# Altium footprint library RLC.PcbLib: 144 footprints (part 2 of 9)
Each footprint in its own frame and in the unit in brackets; x right, y up, seen from the top. Pads: shape width x height; smd on the part's side, far side on the other; paste and mask are expansions set on the pad; w line width, h text height; cw(c..) or ccw(c..) is an arc to the next point about the centre after c.
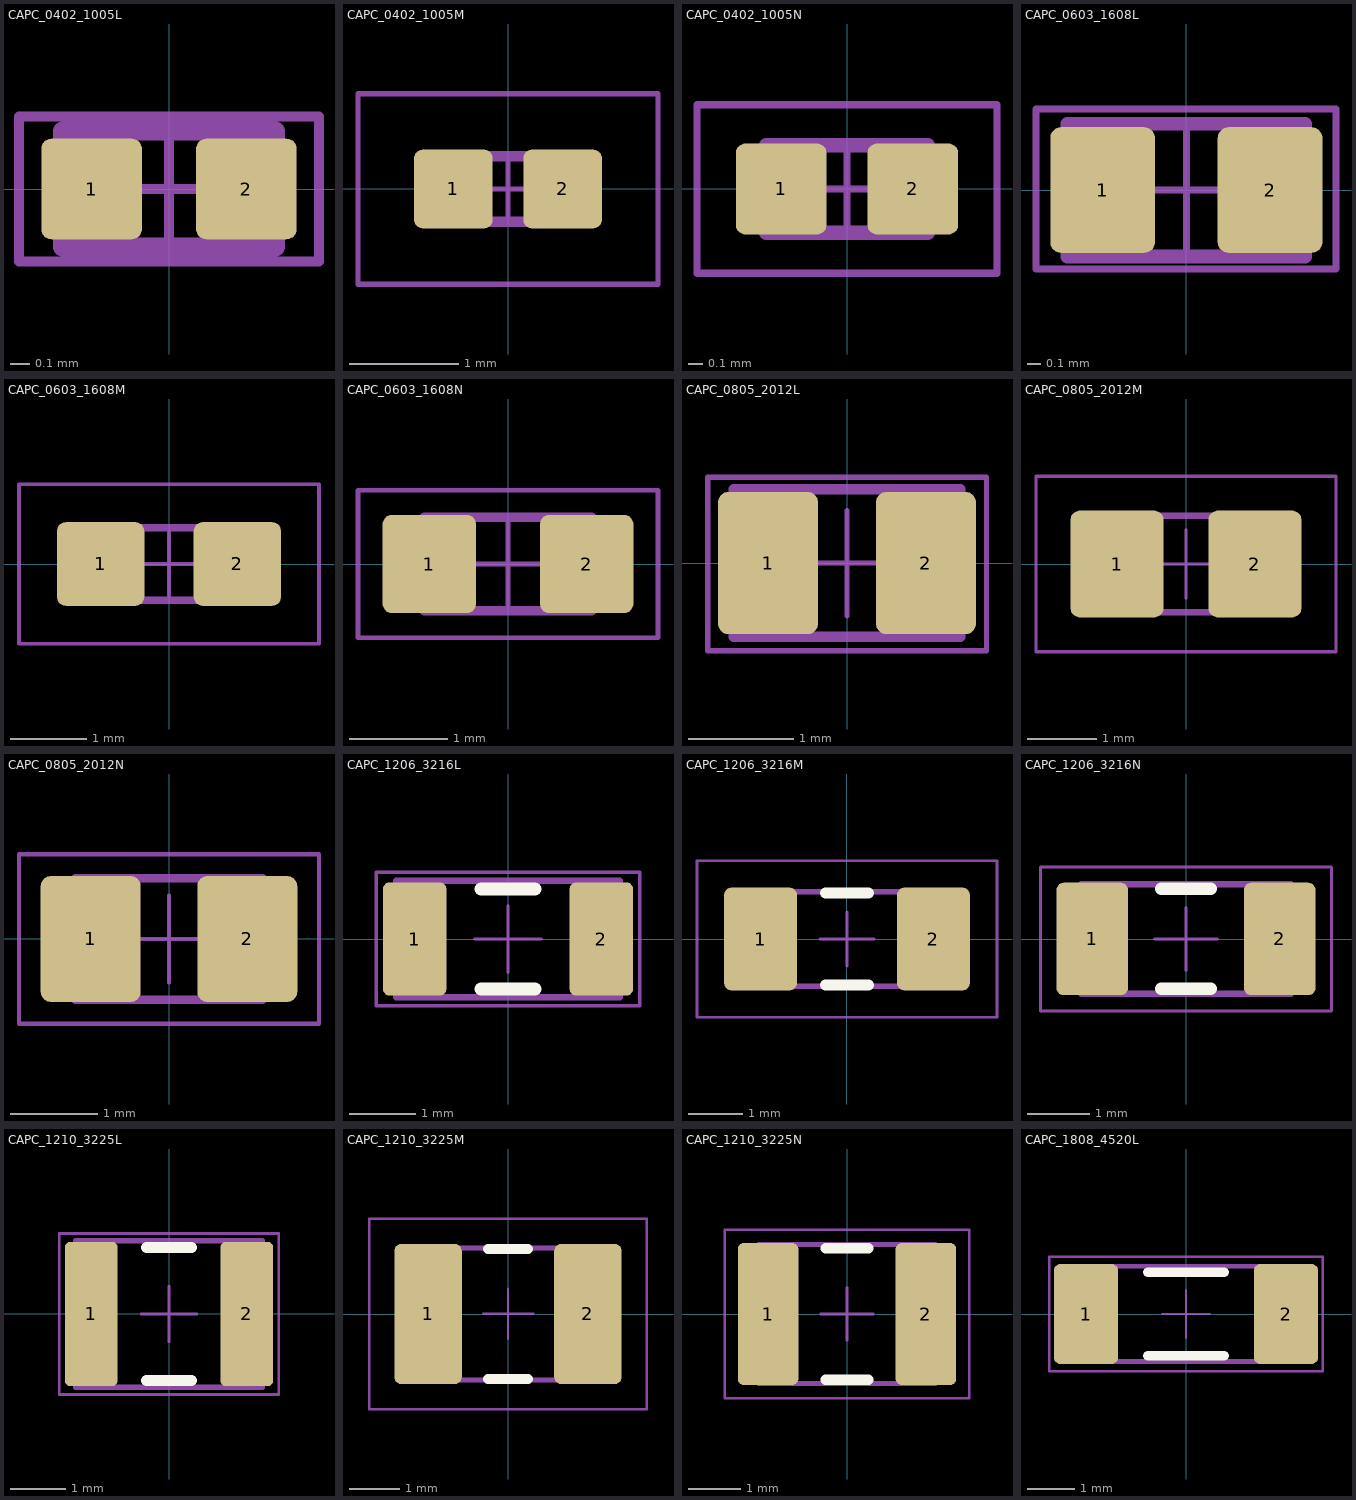
[diagram p1: the footprints below, top view; thin cyan lines are the x and y axes]

## CAPC_0402_1005L [mm] "Chip Capacitor, Body 1.1x0.5mm, IPC High Density"
height 0.4
pads (2):
  rrect20% 0.52x0.52 smd: 1(-0.4,0) 2(0.4,0)
Top Designator:
  text ".Designator" at -2.799,0.7 h0.6
Top Assembly:
  lines w0.1: -0.55,-0.3 -0.55,0.3 0.55,0.3 0.55,-0.3 -0.55,-0.3
Top Courtyard:
  lines w0.05: -0.3,0 0.3,0 ; 0,-0.3 0,0.3 ; -0.775,-0.375 -0.775,0.375 0.775,0.375 0.775,-0.375 -0.775,-0.375
3D body "Ceramic_Capacitor_0402_h20mil.step": height 0.5, standoff 0, extent -0.508,-0.258 0.508,0.25

## CAPC_0402_1005M [mm] "Chip Capacitor, Body 1.1x0.5mm, IPC Low Density"
height 0.4
pads (2):
  rrect20% 0.72x0.72 smd: 1(-0.5,0) 2(0.5,0)
Top Designator:
  text ".Designator" at -2.824,0.95 h0.6
Top Assembly:
  lines w0.1: -0.55,-0.3 0.55,-0.3 0.55,0.3 -0.55,0.3 -0.55,-0.3
Top Courtyard:
  lines w0.05: -0.3,0 0.3,0 ; 0,-0.3 0,0.3 ; -1.375,-0.875 1.375,-0.875 1.375,0.875 -1.375,0.875 -1.375,-0.875
3D body "Ceramic_Capacitor_0402_h20mil.step": height 0.52, standoff 0.01, extent -0.506,-0.263 0.51,0.245

## CAPC_0402_1005N [mm] "Chip Capacitor, Body 1.1x0.5mm, IPC Medium Density"
height 0.4
pads (2):
  rrect20% 0.62x0.62 smd: 1(-0.45,0) 2(0.45,0)
Top Designator:
  text ".Designator" at -2.799,0.9 h0.6
Top Assembly:
  lines w0.1: -0.55,-0.3 -0.55,0.3 0.55,0.3 0.55,-0.3 -0.55,-0.3
Top Courtyard:
  lines w0.05: -0.3,0 0.3,0 ; 0,-0.3 0,0.3 ; -1.025,-0.575 -1.025,0.575 1.025,0.575 1.025,-0.575 -1.025,-0.575
3D body "Ceramic_Capacitor_0402_h20mil.step": height 0.52, standoff 0.01, extent -0.524,-0.265 0.492,0.243

## CAPC_0603_1608L [mm] "Chip Capacitor, Body 1.6x0.8mm, IPC High Density"
height 0.6
pads (2):
  rrect20% 0.75x0.9 smd: 1(-0.6,0) 2(0.6,0)
Top Designator:
  text ".Designator" at -2.899,0.9 h0.6
Top Assembly:
  lines w0.1: -0.85,-0.475 -0.85,0.475 0.85,0.475 0.85,-0.475 -0.85,-0.475
Top Courtyard:
  lines w0.05: -0.475,0 0.475,0 ; 0,-0.475 0,0.475 ; -1.077,-0.568 -1.077,0.582 1.073,0.582 1.073,-0.568 -1.077,-0.568
3D body "Ceramic_Capacitor_0603_h32mil.step": height 0.81, standoff 0.01, extent -0.8,-0.4 0.8,0.4

## CAPC_0603_1608M [mm] "Chip Capacitor, Body 1.6x0.8mm, IPC Low Density"
height 0.6
pads (2):
  rrect20% 1.15x1.1 smd: 1(-0.9,0) 2(0.9,0)
Top Designator:
  text ".Designator" at -2.899,0.9 h0.6
Top Assembly:
  lines w0.1: -0.85,-0.475 0.85,-0.475 0.85,0.475 -0.85,0.475 -0.85,-0.475
Top Courtyard:
  lines w0.05: -0.475,0 0.475,0 ; 0,-0.475 0,0.475 ; -1.975,-1.05 1.975,-1.05 1.975,1.05 -1.975,1.05 -1.975,-1.05
3D body "Ceramic_Capacitor_0603_h32mil.step": height 0.81, standoff 0.01, extent -0.8,-0.4 0.8,0.4

## CAPC_0603_1608N [mm] "Chip Capacitor, Body 1.6x0.8mm, IPC Medium Density"
height 0.6
pads (2):
  rrect20% 0.95x1 smd: 1(-0.8,0) 2(0.8,0)
Top Designator:
  text ".Designator" at -2.899,0.9 h0.6
Top Assembly:
  lines w0.1: -0.85,-0.475 0.85,-0.475 0.85,0.475 -0.85,0.475 -0.85,-0.475
Top Courtyard:
  lines w0.05: -0.475,0 0.475,0 ; 0,-0.475 0,0.475 ; -1.525,-0.75 1.525,-0.75 1.525,0.75 -1.525,0.75 -1.525,-0.75
3D body "Ceramic_Capacitor_0603_h32mil.step": height 0.81, standoff 0.01, extent -0.795,-0.393 0.805,0.407

## CAPC_0805_2012L [mm] "Chip Capacitor, Body 2.0x1.3mm, IPC High Density"
height 0.65
pads (2):
  rrect20% 0.95x1.35 smd: 1(-0.75,0) 2(0.75,0)
Top Designator:
  text ".Designator" at -2.899,1.1 h0.6
Top Assembly:
  lines w0.1: -1.075,-0.7 -1.075,0.7 1.075,0.7 1.075,-0.7 -1.075,-0.7
Top Courtyard:
  lines w0.05: -0.5,0 0.5,0 ; 0,-0.5 0,0.5 ; -1.324,-0.834 -1.324,0.816 1.326,0.816 1.326,-0.834 -1.324,-0.834
3D body "Ceramic_Capacitor_0805_h32mil.step": height 0.81, standoff 0.01, extent -1,-0.65 1,0.6

## CAPC_0805_2012M [mm] "Chip Capacitor, Body 2.0x1.3mm, IPC Low Density"
height 0.65
pads (2):
  rrect20% 1.35x1.55 smd: 1(-1,0) 2(1,0)
Top Designator:
  text ".Designator" at -2.899,1.1 h0.6
Top Assembly:
  lines w0.1: -1.075,-0.7 1.075,-0.7 1.075,0.7 -1.075,0.7 -1.075,-0.7
Top Courtyard:
  lines w0.05: -0.5,0 0.5,0 ; 0,-0.5 0,0.5 ; -2.175,-1.275 2.175,-1.275 2.175,1.275 -2.175,1.275 -2.175,-1.275
3D body "Ceramic_Capacitor_0805_h32mil.step": height 0.81, standoff 0.01, extent -0.994,-0.636 1.006,0.614

## CAPC_0805_2012N [mm] "Chip Capacitor, Body 2.0x1.3mm, IPC Medium Density"
height 0.65
pads (2):
  rrect20% 1.15x1.45 smd: 1(-0.9,0) 2(0.9,0)
Top Designator:
  text ".Designator" at -2.899,1.1 h0.6
Top Assembly:
  lines w0.1: -1.075,-0.7 1.075,-0.7 1.075,0.7 -1.075,0.7 -1.075,-0.7
Top Courtyard:
  lines w0.05: -0.5,0 0.5,0 ; 0,-0.5 0,0.5 ; -1.725,-0.975 1.725,-0.975 1.725,0.975 -1.725,0.975 -1.725,-0.975
3D body "Ceramic_Capacitor_0805_h32mil.step": height 0.81, standoff 0.01, extent -1.014,-0.619 0.986,0.631

## CAPC_1206_3216L [mm] "Chip Capacitor, Body 3.2x1.6mm, IPC High Density"
height 0.71
pads (2):
  rrect20% 0.95x1.7 smd: 1(-1.4,0) 2(1.4,0)
Top Overlay:
  lines w0.2: -0.4,-0.75 0.4,-0.75 ; -0.4,0.75 0.4,0.75
Top Designator:
  text ".Designator" at -2.899,1.4 h0.6
Top Assembly:
  lines w0.1: -1.675,-0.875 -1.675,0.875 1.675,0.875 1.675,-0.875 -1.675,-0.875
Top Courtyard:
  lines w0.05: -0.5,0 0.5,0 ; 0,-0.5 0,0.5 ; -1.975,-1 -1.975,1 1.975,1 1.975,-1 -1.975,-1
3D body "Ceramic_Capacitor_1206_h38mil.step": height 0.96, standoff 0.01, extent -1.575,-0.8 1.625,0.8

## CAPC_1206_3216M [mm] "Chip Capacitor, Body 3.2x1.6mm, IPC Low Density"
height 0.71
pads (2):
  rrect20% 1.35x1.9 smd: 1(-1.6,0) 2(1.6,0)
Top Overlay:
  lines w0.2: -0.4,-0.85 0.4,-0.85 ; -0.4,0.85 0.4,0.85
Top Designator:
  text ".Designator" at -2.899,1.5 h0.6
Top Assembly:
  lines w0.1: -1.675,-0.875 -1.675,0.875 1.675,0.875 1.675,-0.875 -1.675,-0.875
Top Courtyard:
  lines w0.05: -0.5,0 0.5,0 ; 0,-0.5 0,0.5 ; -2.775,-1.45 -2.775,1.45 2.775,1.45 2.775,-1.45 -2.775,-1.45
3D body "Ceramic_Capacitor_1206_h38mil.step": height 0.96, standoff 0.01, extent -1.596,-0.797 1.604,0.803

## CAPC_1206_3216N [mm] "Chip Capacitor, Body 3.2x1.6mm, IPC Medium Density"
height 0.71
pads (2):
  rrect20% 1.15x1.8 smd: 1(-1.5,0) 2(1.5,0)
Top Overlay:
  lines w0.2: -0.4,-0.8 0.4,-0.8 ; -0.4,0.8 0.4,0.8
Top Designator:
  text ".Designator" at -2.899,1.5 h0.6
Top Assembly:
  lines w0.1: -1.675,-0.875 -1.675,0.875 1.675,0.875 1.675,-0.875 -1.675,-0.875
Top Courtyard:
  lines w0.05: -0.5,0 0.5,0 ; 0,-0.5 0,0.5 ; -2.325,-1.15 -2.325,1.15 2.325,1.15 2.325,-1.15 -2.325,-1.15
3D body "Ceramic_Capacitor_1206_h38mil.step": height 0.96, standoff 0.01, extent -1.598,-0.786 1.602,0.814

## CAPC_1210_3225L [mm] "Chip Capacitor, Body 3.2x2.5mm, IPC High Density"
height 0.71
pads (2):
  rrect20% 0.95x2.6 smd: 1(-1.4,0) 2(1.4,0)
Top Overlay:
  lines w0.2: -0.4,-1.2 0.4,-1.2 ; -0.4,1.2 0.4,1.2
Top Designator:
  text ".Designator" at -2.999,1.8 h0.6
Top Assembly:
  lines w0.1: -1.675,-1.32 -1.675,1.32 1.675,1.32 1.675,-1.32 -1.675,-1.32
Top Courtyard:
  lines w0.05: -0.5,0 0.5,0 ; 0,-0.5 0,0.5 ; -1.975,-1.45 -1.975,1.45 1.975,1.45 1.975,-1.45 -1.975,-1.45
3D body "Ceramic_Capacitor_1210_h50mil.step": height 1.26, standoff 0.01, extent -1.598,-1.245 1.602,1.255

## CAPC_1210_3225M [mm] "Chip Capacitor, Body 3.2x2.5mm, IPC Low Density"
height 0.71
pads (2):
  rrect20% 1.35x2.8 smd: 1(-1.6,0) 2(1.6,0)
Top Overlay:
  lines w0.2: -0.4,-1.3 0.4,-1.3 ; -0.4,1.3 0.4,1.3
Top Designator:
  text ".Designator" at -2.999,1.8 h0.6
Top Assembly:
  lines w0.1: -1.675,-1.32 1.675,-1.32 1.675,1.32 -1.675,1.32 -1.675,-1.32
Top Courtyard:
  lines w0.05: -0.5,0 0.5,0 ; 0,-0.5 0,0.5 ; -2.775,-1.9 2.775,-1.9 2.775,1.9 -2.775,1.9 -2.775,-1.9
3D body "Ceramic_Capacitor_1210_h50mil.step": height 1.26, standoff 0.01, extent -1.594,-1.254 1.606,1.246

## CAPC_1210_3225N [mm] "Chip Capacitor, Body 3.2x2.5mm, IPC Medium Density"
height 0.71
pads (2):
  rrect20% 1.15x2.7 smd: 1(-1.5,0) 2(1.5,0)
Top Overlay:
  lines w0.2: -0.4,-1.25 0.4,-1.25 ; -0.4,1.25 0.4,1.25
Top Designator:
  text ".Designator" at -2.999,1.8 h0.6
Top Assembly:
  lines w0.1: -1.675,-1.32 -1.675,1.32 1.675,1.32 1.675,-1.32 -1.675,-1.32
Top Courtyard:
  lines w0.05: -0.5,0 0.5,0 ; 0,-0.5 0,0.5 ; -2.325,-1.6 -2.325,1.6 2.325,1.6 2.325,-1.6 -2.325,-1.6
3D body "Ceramic_Capacitor_1210_h50mil.step": height 1.26, standoff 0.01, extent -1.588,-1.262 1.612,1.238

## CAPC_1808_4520L [mm] "Chip Capacitor, Body 4.5x2.0mm, IPC High Density"
height 0.71
pads (2):
  rrect20% 1.35x2.1 smd: 1(-2.1,0) 2(2.1,0)
Top Overlay:
  lines w0.2: -0.8,-0.875 0.8,-0.875 ; -0.8,0.875 0.8,0.875
Top Designator:
  text ".Designator" at -2.999,1.725 h0.6
Top Assembly:
  lines w0.1: -2.25,-0.998 2.25,-0.998 2.25,1.002 -2.25,1.002 -2.25,-0.998
Top Courtyard:
  lines w0.05: -0.5,0 0.5,0 ; 0,-0.5 0,0.5 ; -2.875,-1.2 2.875,-1.2 2.875,1.2 -2.875,1.2 -2.875,-1.2